# Altium footprint library LED-5mm-red.PcbLib: 1 footprints
Each footprint in its own frame and in the unit in brackets; x right, y up, seen from the top. Pads: shape width x height; smd on the part's side, far side on the other; paste and mask are expansions set on the pad; w line width, h text height; cw(c..) or ccw(c..) is an arc to the next point about the centre after c.
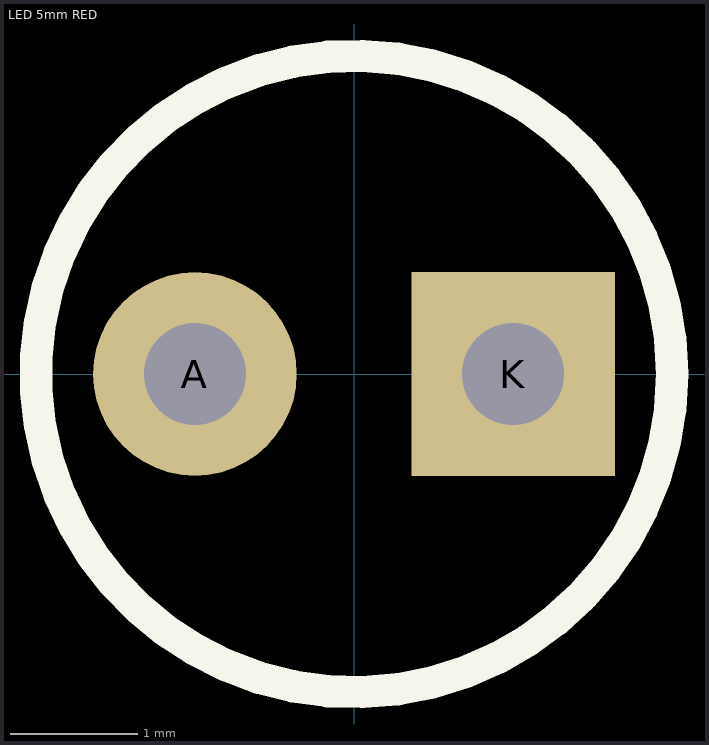
[diagram p0: the footprint, top view; thin cyan lines are the x and y axes]

## LED 5mm RED [mm] "LED 5mm RED"
pads (2):
  round 1.6 hole 0.8: A(-1.25,0)
  rect 1.6x1.6 hole 0.8: K(1.25,0)
Top Overlay:
  circle w0.254: c0,0 r2.5
3D body "LED 5mm Red.step": height 8.72, standoff -2.98, extent -2.733,-2.878 2.667,2.921